# Altium footprint library SMD generic footprints.PcbLib: 20 footprints (part 1 of 2)
Each footprint in its own frame and in the unit in brackets; x right, y up, seen from the top. Pads: shape width x height; smd on the part's side, far side on the other; paste and mask are expansions set on the pad; w line width, h text height; cw(c..) or ccw(c..) is an arc to the next point about the centre after c.
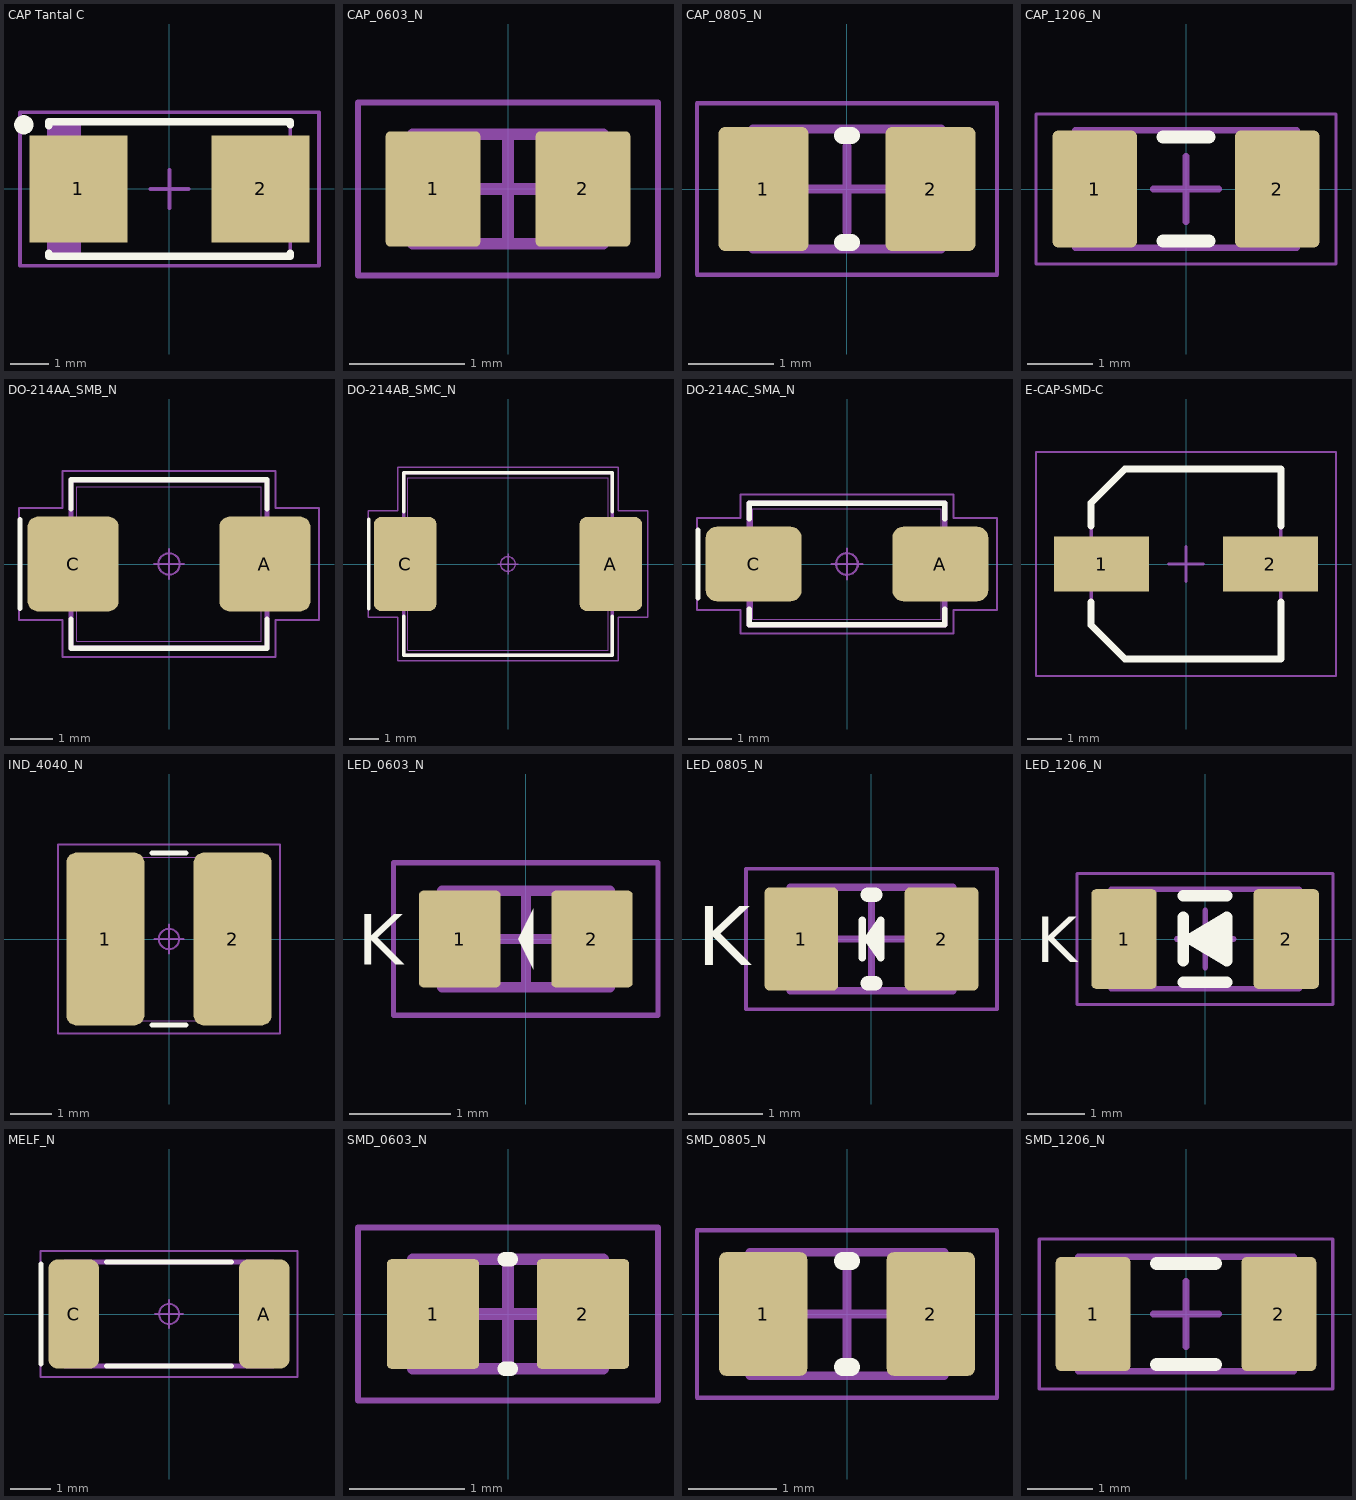
[diagram p0: the footprints below, top view; thin cyan lines are the x and y axes]

## CAP Tantal C [mm] "Molded Capacitor, 2-Leads, Body 6,0x3,2mm, IPC Medium Density"
height 2.8
pads (2):
  rect 2.55x2.794 smd: 1(-2.375,0) 2(2.375,0)
Top Overlay:
  circle w0.25: c-3.8,1.675 r0.125
  lines w0.2: -3.15,-1.676 -3.15,-1.75 3.15,-1.75 3.15,-1.676 ; -3.15,1.651 -3.15,1.75 3.15,1.75 3.15,1.676
Mechanical 13:
  rectangle: -3.15,-1.75 -2.303,1.75
  lines w0.1: -3.15,-1.75 3.15,-1.75 3.15,1.75 -3.15,1.75 -3.15,-1.75
Mechanical 15:
  lines w0.1: -0.5,0 0.5,0 ; 0,-0.5 0,0.5 ; -3.9,-2 3.9,-2 3.9,2 -3.9,2 -3.9,-2
3D body "User Library-cap_c.step": height 2.53, standoff 0.02, extent -2.971,-1.6 3.022,1.6

## CAP_0603_N [mm] "Chip Capacitor, 2-Leads, Body 1.57x0.85mm, IPC Medium Density"
height 0.95
pads (2):
  rrect10% 0.82x1 smd: 1(-0.65,0) 2(0.65,0)
Mechanical 13:
  lines w0.1: -0.825,-0.475 0.825,-0.475 0.825,0.475 -0.825,0.475 -0.825,-0.475
Mechanical 15:
  lines w0.05: -1.3,-0.75 1.3,-0.75 1.3,0.75 -1.3,0.75 -1.3,-0.75
  lines w0.1: -0.475,0 0.475,0 ; 0,-0.475 0,0.475
3D body "C0603N.step": height 0.95, standoff 0, extent -0.825,-0.475 0.825,0.475

## CAP_0805_N [mm] "Chip Capacitor, 2-Leads, Body 2.05x1.25mm, IPC Medium Density"
height 1.4
pads (2):
  rrect15% 1.05x1.45 smd: 1(-0.975,0) 2(0.975,0)
Top Overlay:
  lines w0.2: -0.05,-0.625 0.05,-0.625 ; -0.05,0.625 0.05,0.625
Mechanical 13:
  lines w0.1: -1.1,-0.7 1.1,-0.7 1.1,0.7 -1.1,0.7 -1.1,-0.7
Mechanical 15:
  lines w0.05: -1.75,-1 1.75,-1 1.75,1 -1.75,1 -1.75,-1
  lines w0.1: -0.5,0 0.5,0 ; 0,-0.5 0,0.5
3D body "C0805_N.step": height 1.4, standoff 0, extent -1.1,-0.7 1.1,0.7

## CAP_1206_N [mm] "Chip Capacitor, 2-Leads, Body 3.20x1.60mm, IPC Medium Density"
height 1.8
pads (2):
  rrect15% 1.3x1.8 smd: 1(-1.4,0) 2(1.4,0)
Top Overlay:
  lines w0.2: -0.35,-0.8 0.35,-0.8 ; -0.35,0.8 0.35,0.8
Mechanical 13:
  lines w0.1: -1.7,-0.9 -1.7,0.9 1.7,0.9 1.7,-0.9 -1.7,-0.9
Mechanical 15:
  lines w0.05: -2.3,-1.15 -2.3,1.15 2.3,1.15 2.3,-1.15 -2.3,-1.15
  lines w0.1: -0.5,0 0.5,0 ; 0,-0.5 0,0.5
3D body "C1206(3216)_N.step": height 1.8, standoff 0, extent -1.7,-0.9 1.7,0.9

## DO-214AA_SMB_N [mm] "Diode, Molded Body; 5.40 mm L X 3.62 mm W X 2.44 mm H body"
height 2.44
pads (2):
  rrect23% 2.13x2.22 smd: A(2.24,0) C(-2.24,0)
Top Overlay:
  lines w0.12: -3.485,-1.04 -3.485,1.04 ; -2.29,-1.29 -2.29,-1.97 2.29,-1.97 2.29,-1.29 ; -2.29,1.29 -2.29,1.97 2.29,1.97 2.29,1.29
Mechanical 13:
  lines w0.025: -2.157,-1.81 -2.157,1.81 2.157,1.81 2.157,-1.81 -2.157,-1.81
Mechanical 15:
  circle w0.05: c0,0 r0.25
  lines w0.05: -0.35,0 0.35,0 ; 0,-0.35 0,0.35 ; -3.505,-1.31 -3.505,1.31 -2.49,1.31 -2.49,2.17 2.49,2.17 2.49,1.31 3.505,1.31 3.505,-1.31 2.49,-1.31 2.49,-2.17 -2.49,-2.17 -2.49,-1.31 -3.505,-1.31
Mechanical 19:
  lines w0.025: -2.7,-1.038 -1.56,-1.038 -1.56,1.038 -2.7,1.038 -2.7,-1.038 ; 1.56,-1.038 1.56,1.038 2.7,1.038 2.7,-1.038 1.56,-1.038
Mechanical 21:
  lines w0.12: -2.29,-1.97 -2.29,1.97 2.29,1.97 2.29,-1.97 -2.29,-1.97
3D body "DO-214AA_SMB__N.STEP": height 2.44, standoff 0, extent -2.7,-1.81 2.7,1.81

## DO-214AB_SMC_N [mm] "Diode, Molded Body; 7.94 mm L X 5.905 mm W X 2.62 mm H body"
height 2.62
pads (2):
  rrect23% 2.13x3.22 smd: A(3.51,0) C(-3.51,0)
Top Overlay:
  lines w0.12: -4.755,-1.53 -4.755,1.53 ; -3.56,-1.79 -3.56,-3.11 3.56,-3.11 3.56,-1.79 ; -3.56,1.79 -3.56,3.11 3.56,3.11 3.56,1.79
Mechanical 13:
  lines w0.025: -3.427,-2.953 3.427,-2.953 3.427,2.953 -3.427,2.953 -3.427,-2.953
Mechanical 15:
  circle w0.05: c0,0 r0.25
  lines w0.05: -0.35,0 0.35,0 ; 0,-0.35 0,0.35 ; -4.775,-1.81 -3.76,-1.81 -3.76,-3.31 3.76,-3.31 3.76,-1.81 4.775,-1.81 4.775,1.81 3.76,1.81 3.76,3.31 -3.76,3.31 -3.76,1.81 -4.775,1.81 -4.775,-1.81
Mechanical 19:
  lines w0.025: -3.97,-1.525 -3.97,1.525 -2.83,1.525 -2.83,-1.525 -3.97,-1.525 ; 2.83,-1.525 3.97,-1.525 3.97,1.525 2.83,1.525 2.83,-1.525
Mechanical 21:
  lines w0.12: -3.56,-3.11 3.56,-3.11 3.56,3.11 -3.56,3.11 -3.56,-3.11
3D body "DO-214AB_SMC_N.STEP": height 2.62, standoff 0, extent -3.97,-2.953 3.97,2.953

## DO-214AC_SMA_N [mm] "Diode, Molded Body; 5.20 mm L X 2.55 mm W X 3.00 mm H body"
height 3
pads (2):
  rrect29% 2.21x1.72 smd: A(2.15,0) C(-2.15,0)
Top Overlay:
  lines w0.12: -3.435,-0.78 -3.435,0.78 ; -2.25,-1.04 -2.25,-1.4 2.25,-1.4 2.25,-1.04 ; -2.25,1.04 -2.25,1.4 2.25,1.4 2.25,1.04
Mechanical 13:
  lines w0.025: -2.175,-1.275 -2.175,1.275 2.175,1.275 2.175,-1.275 -2.175,-1.275
Mechanical 15:
  circle w0.05: c0,0 r0.25
  lines w0.05: -0.35,0 0.35,0 ; 0,-0.35 0,0.35 ; -3.455,-1.06 -3.455,1.06 -2.45,1.06 -2.45,1.6 2.45,1.6 2.45,1.06 3.455,1.06 3.455,-1.06 2.45,-1.06 2.45,-1.6 -2.45,-1.6 -2.45,-1.06 -3.455,-1.06
Mechanical 19:
  lines w0.025: -2.6,-0.775 -1.46,-0.775 -1.46,0.775 -2.6,0.775 -2.6,-0.775 ; 1.46,-0.775 1.46,0.775 2.6,0.775 2.6,-0.775 1.46,-0.775
Mechanical 21:
  lines w0.12: -2.25,-1.4 -2.25,1.4 2.25,1.4 2.25,-1.4 -2.25,-1.4
3D body "DO-214AC_SMA_N.STEP": height 3, standoff 0, extent -2.6,-1.275 2.6,1.275

## E-CAP-SMD-C [mm] "Aluminum Electrolytic Capacitor, Body 5.30x5.30x6.10mm, IPC Medium Density"
height 6.1
pads (2):
  rect 2.75x1.6 smd: 1(-2.45,0) 2(2.45,0)
Top Overlay:
  lines w0.2: -2.75,-1.1 -2.75,-1.775 -1.775,-2.75 2.75,-2.75 2.75,-1.1 ; -2.75,1.1 -2.75,1.775 -1.775,2.75 2.75,2.75 2.75,1.1
Mechanical 13:
  lines w0.1: -2.75,-1.775 -2.75,1.775 -1.775,2.75 2.75,2.75 2.75,-2.75 -1.775,-2.75 -2.75,-1.775
Mechanical 15:
  lines w0.05: -4.35,-3.25 4.35,-3.25 4.35,3.25 -4.35,3.25 -4.35,-3.25
  lines w0.1: -0.5,0 0.5,0 ; 0,-0.5 0,0.5
3D body "User Library-ALU-C.STEP": height 5.41, standoff 0, extent -2.95,-2.65 2.95,2.65

## IND_4040_N [mm] "Inductor, Chip; 4.00 mm L X 4.00 mm W X 2.50 mm H body"
height 2.5
pads (2):
  rrect26% 1.91x4.22 smd: 1(-1.555,0) 2(1.555,0)
Top Overlay:
  lines w0.12: -0.42,-2.1 0.42,-2.1 ; -0.42,2.1 0.42,2.1
Mechanical 12:
  lines w0.025: -2,-2 2,-2 ; -2,-2 -2,2 ; -2,-2 -2,2 ; -2,-2 -0.75,-2 -0.75,2 -2,2 ; -2,2 2,2 ; 2,-2 2,2 ; 2,-2 0.75,-2 0.75,2 2,2 ; 2,-2 2,2
Mechanical 15:
  circle w0.05: c0,0 r0.25
  lines w0.05: -0.35,0 0.35,0 ; 0,-0.35 0,0.35 ; -2.71,-2.31 2.71,-2.31 2.71,2.31 -2.71,2.31 -2.71,-2.31
Mechanical 17:
  text ".Designator" at 0,0 h1.2
3D body "STEP-WE-LQS-4025-rev1.stp": height 2.15, standoff 0, extent -2,-2 2,2

## LED_0603_N [mm] "SMD LED, 2-Leads, Body 1.57x0.85mm, IPC Medium Density"
height 0.5
pads (2):
  rrect10% 0.8x0.95 smd: 1(-0.65,0) 2(0.65,0)
Top Overlay:
  region: 0.075,0.3 -0.075,0 0.075,-0.3
  text "K" at -1.651,-0.254 h0.5
Mechanical 13:
  lines w0.1: -0.825,-0.475 0.825,-0.475 0.825,0.475 -0.825,0.475 -0.825,-0.475
Mechanical 15:
  lines w0.05: -1.3,-0.75 1.3,-0.75 1.3,0.75 -1.3,0.75 -1.3,-0.75
  lines w0.1: -0.475,0 0.475,0 ; 0,-0.475 0,0.475
3D body "STEP-WL-SMCW-0603-rev1.stp": height 0.7, standoff 0, extent -0.8,-0.4 0.8,0.4

## LED_0805_N [mm] "SMD LED, 2-Leads, Body 2.05x1.25mm, IPC Medium Density"
height 0.8
pads (2):
  rrect15% 1x1.4 smd: 1(-0.95,0) 2(0.95,0)
Top Overlay:
  region: 0.127,-0.254 0.127,0.254 -0.127,0
  lines w0.1: -0.127,-0.254 -0.127,0.254 ; -0.051,0 0.127,-0.254 0.127,0.254 -0.051,0
  lines w0.2: -0.05,-0.6 0.05,-0.6 ; -0.05,0.6 0.05,0.6
  text "K" at -2.362,-0.356 h0.8
Mechanical 13:
  lines w0.1: -1.1,-0.7 -1.1,0.7 1.1,0.7 1.1,-0.7 -1.1,-0.7
Mechanical 15:
  lines w0.05: -1.7,-0.95 -1.7,0.95 1.7,0.95 1.7,-0.95 -1.7,-0.95
  lines w0.1: -0.5,0 0.5,0 ; 0,-0.5 0,0.5
3D body "STEP-WL-SMCW-0805-rev1.stp": height 0.7, standoff 0, extent -1,-0.625 1,0.625

## LED_1206_N [mm] "SMD LED, 2-Leads, Body 3.15x1.60mm, IPC Medium Density"
height 0.6
pads (2):
  rrect15% 1.15x1.75 smd: 1(-1.425,0) 2(1.425,0)
Top Overlay:
  region: 0.381,-0.381 0.381,0.381 -0.381,0
  lines w0.2: -0.381,-0.762 0.381,-0.762 ; -0.381,-0.381 -0.381,0.381 ; -0.381,0.762 0.381,0.762 ; -0.254,0 0.381,-0.381 0.381,0.381 -0.254,0
  text "K" at -2.972,-0.406 h0.8
Mechanical 13:
  lines w0.1: -1.65,-0.875 -1.65,0.875 1.65,0.875 1.65,-0.875 -1.65,-0.875
Mechanical 15:
  lines w0.05: -2.25,-1.15 -2.25,1.15 2.25,1.15 2.25,-1.15 -2.25,-1.15
  lines w0.1: -0.5,0 0.5,0 ; 0,-0.5 0,0.5
3D body "STEP-WL-SMCW-1206-rev1.stp": height 0.68, standoff 0, extent -1.6,-0.8 1.6,0.8

## MELF_N [mm] "Diode, Metal Electrode Leadless Face (MELF); 5.00 mm L X 2.50 mm Dia body"
height 2.6
pads (2):
  rrect39% 1.27x2.73 smd: A(2.375,0) C(-2.375,0)
Top Overlay:
  lines w0.12: -3.19,-1.25 -3.19,1.25 ; -1.56,-1.3 1.56,-1.3 ; -1.56,1.3 1.56,1.3
Mechanical 13:
  lines w0.025: -2.5,-1.25 -2.5,1.25 2.5,1.25 2.5,-1.25 -2.5,-1.25
Mechanical 15:
  circle w0.05: c0,0 r0.25
  lines w0.05: -0.35,0 0.35,0 ; 0,-0.35 0,0.35 ; -3.21,-1.57 -3.21,1.57 3.21,1.57 3.21,-1.57 -3.21,-1.57
Mechanical 17:
  text ".Designator" at 0,0 h1.2
Mechanical 19:
  lines w0.025: -2.5,-1.25 -1.95,-1.25 -1.95,1.25 -2.5,1.25 -2.5,-1.25 ; 1.95,-1.25 1.95,1.25 2.5,1.25 2.5,-1.25 1.95,-1.25
Mechanical 21:
  lines w0.12: -2.6,-1.3 -2.6,1.3 2.6,1.3 2.6,-1.3 -2.6,-1.3
3D body "MELF_N.STEP": height 2.5, standoff 0, extent -2.5,-1.25 2.5,1.25

## SMD_0603_N [mm] "Chip 2-Leads, Body 1.57x0.85mm, IPC Medium Density"
height 0.5
pads (2):
  rrect10% 0.8x0.95 smd: 1(-0.65,0) 2(0.65,0)
Top Overlay:
  lines w0.127: -0.025,-0.475 0.025,-0.475 ; -0.025,0.475 0.025,0.475
Mechanical 13:
  lines w0.1: -0.825,-0.475 0.825,-0.475 0.825,0.475 -0.825,0.475 -0.825,-0.475
Mechanical 15:
  lines w0.05: -1.3,-0.75 1.3,-0.75 1.3,0.75 -1.3,0.75 -1.3,-0.75
  lines w0.1: -0.475,0 0.475,0 ; 0,-0.475 0,0.475
3D body "R0603(1608)_N.step": height 0.5, standoff 0, extent -0.825,-0.475 0.825,0.475

## SMD_0805_N [mm] "Chip 2-Leads, Body 2.05x1.25mm, IPC Medium Density"
height 0.8
pads (2):
  rrect15% 1x1.4 smd: 1(-0.95,0) 2(0.95,0)
Top Overlay:
  lines w0.2: -0.05,-0.6 0.05,-0.6 ; -0.05,0.6 0.05,0.6
Mechanical 13:
  lines w0.1: -1.1,-0.7 -1.1,0.7 1.1,0.7 1.1,-0.7 -1.1,-0.7
Mechanical 15:
  lines w0.05: -1.7,-0.95 -1.7,0.95 1.7,0.95 1.7,-0.95 -1.7,-0.95
  lines w0.1: -0.5,0 0.5,0 ; 0,-0.5 0,0.5
3D body "R0805_N.step": height 0.8, standoff 0, extent -1.1,-0.7 1.1,0.7

## SMD_1206_N [mm] "Chip 2-Leads, Body 3.15x1.60mm, IPC Medium Density"
height 0.6
pads (2):
  rrect15% 1.15x1.75 smd: 1(-1.425,0) 2(1.425,0)
Top Overlay:
  lines w0.2: -0.45,-0.775 0.45,-0.775 ; -0.45,0.775 0.45,0.775
Mechanical 13:
  lines w0.1: -1.65,-0.875 -1.65,0.875 1.65,0.875 1.65,-0.875 -1.65,-0.875
Mechanical 15:
  lines w0.05: -2.25,-1.15 -2.25,1.15 2.25,1.15 2.25,-1.15 -2.25,-1.15
  lines w0.1: -0.5,0 0.5,0 ; 0,-0.5 0,0.5
3D body "R1206(3216)_N.step": height 0.6, standoff 0, extent -1.65,-0.875 1.65,0.875